# Altium footprint library FPGA.PcbLib: 5 footprints
Each footprint in its own frame and in the unit in brackets; x right, y up, seen from the top. Pads: shape width x height; smd on the part's side, far side on the other; paste and mask are expansions set on the pad; w line width, h text height; cw(c..) or ccw(c..) is an arc to the next point about the centre after c.
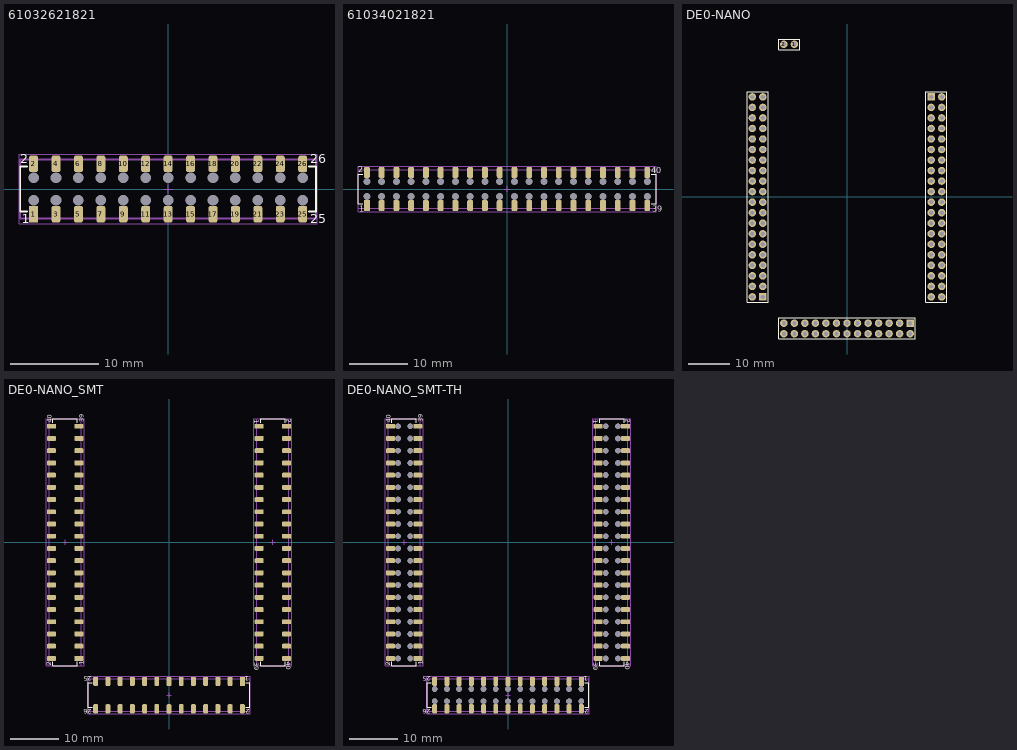
[diagram p0: the footprints below, top view; thin cyan lines are the x and y axes]

## 61032621821 [mm] "Dual SMT Socket Header, pitch 2.54mm, 26p"
height 7.45
pads (52):
  rect 1.02x1.9 smd: 1(-15.24,-2.85)
  rrect50% 1.02x1.9 smd: 2(-15.24,2.85) 3(-12.7,-2.85) 4(-12.7,2.85) 5(-10.16,-2.85) 6(-10.16,2.85) 7(-7.62,-2.85) 8(-7.62,2.85) 9(-5.08,-2.85) 10(-5.08,2.85) 11(-2.54,-2.85) 12(-2.54,2.85) 13(0,-2.85) 14(0,2.85) 15(2.54,-2.85) 16(2.54,2.85) 17(5.08,-2.85) 18(5.08,2.85) 19(7.62,-2.85) 20(7.62,2.85) 21(10.16,-2.85) 22(10.16,2.85) 23(12.7,-2.85) 24(12.7,2.85) 25(15.24,-2.85) 26(15.24,2.85)
  round 1.1 hole 1.2 unplated: ""(-15.24,-1.27) ""(-15.24,1.27) ""(-12.7,-1.27) ""(-12.7,1.27) ""(-10.16,-1.27) ""(-10.16,1.27) ""(-7.62,-1.27) ""(-7.62,1.27) ""(-5.08,-1.27) ""(-5.08,1.27) ""(-2.54,-1.27) ""(-2.54,1.27) ""(0,-1.27) ""(0,1.27) ""(2.54,-1.27) ""(2.54,1.27) ""(5.08,-1.27) ""(5.08,1.27) ""(7.62,-1.27) ""(7.62,1.27) ""(10.16,-1.27) ""(10.16,1.27) ""(12.7,-1.27) ""(12.7,1.27) ""(15.24,-1.27) ""(15.24,1.27)
Top Overlay:
  lines w0.2: -15.95,-2.54 -16.76,-2.54 -16.76,2.54 -15.95,2.54 ; 15.95,-2.54 16.76,-2.54 16.76,2.54 15.95,2.54
  text "26" at 16.07,2.9 h1.02
  text "25" at 16.07,-3.9 h1.02
  text "2" at -16.77,2.9 h1.02
  text "1" at -16.57,-3.9 h1.02
Mechanical 13:
  lines w0.2: -16.76,-3.35 -16.76,3.35 16.76,3.35 16.76,-3.35 -16.76,-3.35
Mechanical 15:
  lines w0.05: -16.891,-3.937 -16.891,3.937 16.891,3.937 16.891,-3.937 -16.891,-3.937
  lines w0.1: -0.5,0 0.5,0 ; 0,-0.5 0,0.5
3D body "61002621821 (rev1).stp": height 7.43, standoff -0.02, extent -16.76,-3.35 16.76,3.35

## 61034021821 [mm] "Dual SMT Socket Header, pitch 2.54mm, 40p"
height 7.45
pads (80):
  rect 1.02x1.9 smd: 1(-24.13,-2.85)
  rrect50% 1.02x1.9 smd: 2(-24.13,2.85) 3(-21.59,-2.85) 4(-21.59,2.85) 5(-19.05,-2.85) 6(-19.05,2.85) 7(-16.51,-2.85) 8(-16.51,2.85) 9(-13.97,-2.85) 10(-13.97,2.85) 11(-11.43,-2.85) 12(-11.43,2.85) 13(-8.89,-2.85) 14(-8.89,2.85) 15(-6.35,-2.85) 16(-6.35,2.85) 17(-3.81,-2.85) 18(-3.81,2.85) 19(-1.27,-2.85) 20(-1.27,2.85) 21(1.27,-2.85) 22(1.27,2.85) 23(3.81,-2.85) 24(3.81,2.85) 25(6.35,-2.85) 26(6.35,2.85) 27(8.89,-2.85) 28(8.89,2.85) 29(11.43,-2.85) 30(11.43,2.85) 31(13.97,-2.85) 32(13.97,2.85) 33(16.51,-2.85) 34(16.51,2.85) 35(19.05,-2.85) 36(19.05,2.85) 37(21.59,-2.85) 38(21.59,2.85) 39(24.13,-2.85) 40(24.13,2.85)
  round 1.1 hole 1.2 unplated: ""(-24.13,-1.27) ""(-24.13,1.27) ""(-21.59,-1.27) ""(-21.59,1.27) ""(-19.05,-1.27) ""(-19.05,1.27) ""(-16.51,-1.27) ""(-16.51,1.27) ""(-13.97,-1.27) ""(-13.97,1.27) ""(-11.43,-1.27) ""(-11.43,1.27) ""(-8.89,-1.27) ""(-8.89,1.27) ""(-6.35,-1.27) ""(-6.35,1.27) ""(-3.81,-1.27) ""(-3.81,1.27) ""(-1.27,-1.27) ""(-1.27,1.27) ""(1.27,-1.27) ""(1.27,1.27) ""(3.81,-1.27) ""(3.81,1.27) ""(6.35,-1.27) ""(6.35,1.27) ""(8.89,-1.27) ""(8.89,1.27) ""(11.43,-1.27) ""(11.43,1.27) ""(13.97,-1.27) ""(13.97,1.27) ""(16.51,-1.27) ""(16.51,1.27) ""(19.05,-1.27) ""(19.05,1.27) ""(21.59,-1.27) ""(21.59,1.27) ""(24.13,-1.27) ""(24.13,1.27)
Top Overlay:
  lines w0.2: -24.84,-2.54 -25.65,-2.54 -25.65,2.54 -24.84,2.54 ; 24.84,-2.54 25.65,-2.54 25.65,2.54 24.84,2.54
  text "39" at 24.96,-3.9 h1.02
  text "40" at 24.808,2.748 h1.02
  text "1" at -25.46,-3.9 h1.02
  text "2" at -25.66,2.9 h1.02
Mechanical 13:
  lines w0.2: -25.65,-3.35 -25.65,3.35 25.65,3.35 25.65,-3.35 -25.65,-3.35
Mechanical 15:
  lines w0.05: -25.654,-3.937 -25.654,3.937 25.654,3.937 25.654,-3.937 -25.654,-3.937
  lines w0.1: -0.5,0 0.5,0 ; 0,-0.5 0,0.5
3D body "61004021821 (rev1).stp": height 7.43, standoff -0.02, extent -25.65,-3.35 25.65,3.35

## DE0-NANO [mm]
pads (108):
  round 1.8 hole 1: 1(-12.7,36.83) 2(-15.24,36.83) 102(22.86,24.13) 103(20.32,21.59) 104(22.86,21.59) 105(20.32,19.05) 106(22.86,19.05) 107(20.32,16.51) 108(22.86,16.51) 109(20.32,13.97) 110(22.86,13.97) 111(20.32,11.43) 112(22.86,11.43) 113(20.32,8.89) 114(22.86,8.89) 115(20.32,6.35) 116(22.86,6.35) 117(20.32,3.81) 118(22.86,3.81) 119(20.32,1.27) 120(22.86,1.27) 121(20.32,-1.27) 122(22.86,-1.27) 123(20.32,-3.81) 124(22.86,-3.81) 125(20.32,-6.35) 126(22.86,-6.35) 127(20.32,-8.89) 128(22.86,-8.89) 129(20.32,-11.43) 130(22.86,-11.43) 131(20.32,-13.97) 132(22.86,-13.97) 133(20.32,-16.51) 134(22.86,-16.51) 135(20.32,-19.05) 136(22.86,-19.05) 137(20.32,-21.59) 138(22.86,-21.59) 139(20.32,-24.13) 140(22.86,-24.13) 202(-22.86,-24.13) 203(-20.32,-21.59) 204(-22.86,-21.59) 205(-20.32,-19.05) 206(-22.86,-19.05) 207(-20.32,-16.51) 208(-22.86,-16.51) 209(-20.32,-13.97) 210(-22.86,-13.97) 211(-20.32,-11.43) 212(-22.86,-11.43) 213(-20.32,-8.89) 214(-22.86,-8.89) 215(-20.32,-6.35) 216(-22.86,-6.35) 217(-20.32,-3.81) 218(-22.86,-3.81) 219(-20.32,-1.27) 220(-22.86,-1.27) 221(-20.32,1.27) 222(-22.86,1.27) 223(-20.32,3.81) 224(-22.86,3.81) 225(-20.32,6.35) 226(-22.86,6.35) 227(-20.32,8.89) 228(-22.86,8.89) 229(-20.32,11.43) 230(-22.86,11.43) 231(-20.32,13.97) 232(-22.86,13.97) 233(-20.32,16.51) 234(-22.86,16.51) 235(-20.32,19.05) 236(-22.86,19.05) 237(-20.32,21.59) 238(-22.86,21.59) 239(-20.32,24.13) 240(-22.86,24.13) 302(15.24,-33.02) 303(12.7,-30.48) 304(12.7,-33.02) 305(10.16,-30.48) 306(10.16,-33.02) 307(7.62,-30.48) 308(7.62,-33.02) 309(5.08,-30.48) 310(5.08,-33.02) 311(2.54,-30.48) 312(2.54,-33.02) 313(0,-30.48) 314(0,-33.02) 315(-2.54,-30.48) 316(-2.54,-33.02) 317(-5.08,-30.48) 318(-5.08,-33.02) 319(-7.62,-30.48) 320(-7.62,-33.02) 321(-10.16,-30.48) 322(-10.16,-33.02) 323(-12.7,-30.48) 324(-12.7,-33.02) 325(-15.24,-30.48) 326(-15.24,-33.02)
  rect 1.8x1.8 hole 1: 101(20.32,24.13) 201(-20.32,-24.13) 301(15.24,-30.48)
Top Overlay:
  lines w0.2: -24.13,-25.4 -24.13,25.4 -19.05,25.4 -19.05,-25.4 -24.13,-25.4 ; -16.51,-34.29 16.51,-34.29 16.51,-29.21 -16.51,-29.21 -16.51,-34.29 ; -16.51,35.56 -16.51,38.1 -11.43,38.1 -11.43,35.56 -16.51,35.56 ; 19.05,-25.4 19.05,25.4 24.13,25.4 24.13,-25.4 19.05,-25.4
3D body: height 0, standoff 0, extent -16.51,-34.289 16.51,-31.751
3D body: height 0, standoff 0, extent -16.51,-31.749 16.51,-29.211
3D body: height 0, standoff 0, extent -16.51,35.561 -11.43,38.1
3D body: height 0, standoff 0, extent -21.589,-25.4 -19.05,25.4
3D body: height 0, standoff 0, extent -24.129,-25.4 -21.591,25.4
3D body: height 0, standoff 0, extent 21.591,-25.4 24.13,25.4
3D body: height 0, standoff 0, extent 19.051,-25.4 21.59,25.4

## DE0-NANO_SMT [mm] "empreinte pour la DE0 nano CMS seulement (fait avec 1x61032621821 et 2x61034021821)"
height 15
pads (106):
  rect 1.9x1.02 smd: 101(18.74,24.13) 201(-18.74,-24.13)
  rrect50% 1.9x1.02 smd: 102(24.44,24.13) 103(18.74,21.59) 104(24.44,21.59) 105(18.74,19.05) 106(24.44,19.05) 107(18.74,16.51) 108(24.44,16.51) 109(18.74,13.97) 110(24.44,13.97) 111(18.74,11.43) 112(24.44,11.43) 113(18.74,8.89) 114(24.44,8.89) 115(18.74,6.35) 116(24.44,6.35) 117(18.74,3.81) 118(24.44,3.81) 119(18.74,1.27) 120(24.44,1.27) 121(18.74,-1.27) 122(24.44,-1.27) 123(18.74,-3.81) 124(24.44,-3.81) 125(18.74,-6.35) 126(24.44,-6.35) 127(18.74,-8.89) 128(24.44,-8.89) 129(18.74,-11.43) 130(24.44,-11.43) 131(18.74,-13.97) 132(24.44,-13.97) 133(18.74,-16.51) 134(24.44,-16.51) 135(18.74,-19.05) 136(24.44,-19.05) 137(18.74,-21.59) 138(24.44,-21.59) 139(18.74,-24.13) 140(24.44,-24.13) 202(-24.44,-24.13) 203(-18.74,-21.59) 204(-24.44,-21.59) 205(-18.74,-19.05) 206(-24.44,-19.05) 207(-18.74,-16.51) 208(-24.44,-16.51) 209(-18.74,-13.97) 210(-24.44,-13.97) 211(-18.74,-11.43) 212(-24.44,-11.43) 213(-18.74,-8.89) 214(-24.44,-8.89) 215(-18.74,-6.35) 216(-24.44,-6.35) 217(-18.74,-3.81) 218(-24.44,-3.81) 219(-18.74,-1.27) 220(-24.44,-1.27) 221(-18.74,1.27) 222(-24.44,1.27) 223(-18.74,3.81) 224(-24.44,3.81) 225(-18.74,6.35) 226(-24.44,6.35) 227(-18.74,8.89) 228(-24.44,8.89) 229(-18.74,11.43) 230(-24.44,11.43) 231(-18.74,13.97) 232(-24.44,13.97) 233(-18.74,16.51) 234(-24.44,16.51) 235(-18.74,19.05) 236(-24.44,19.05) 237(-18.74,21.59) 238(-24.44,21.59) 239(-18.74,24.13) 240(-24.44,24.13)
  rect 1.02x1.9 smd: 301(15.24,-28.9)
  rrect50% 1.02x1.9 smd: 302(15.24,-34.6) 303(12.7,-28.9) 304(12.7,-34.6) 305(10.16,-28.9) 306(10.16,-34.6) 307(7.62,-28.9) 308(7.62,-34.6) 309(5.08,-28.9) 310(5.08,-34.6) 311(2.54,-28.9) 312(2.54,-34.6) 313(0,-28.9) 314(0,-34.6) 315(-2.54,-28.9) 316(-2.54,-34.6) 317(-5.08,-28.9) 318(-5.08,-34.6) 319(-7.62,-28.9) 320(-7.62,-34.6) 321(-10.16,-28.9) 322(-10.16,-34.6) 323(-12.7,-28.9) 324(-12.7,-34.6) 325(-15.24,-28.9) 326(-15.24,-34.6)
Top Overlay:
  lines w0.2: -24.13,-24.84 -24.13,-25.65 -19.05,-25.65 -19.05,-24.84 ; -24.13,24.84 -24.13,25.65 -19.05,25.65 -19.05,24.84 ; -15.95,-34.29 -16.76,-34.29 -16.76,-29.21 -15.95,-29.21 ; 15.95,-34.29 16.76,-34.29 16.76,-29.21 15.95,-29.21 ; 19.05,-24.84 19.05,-25.65 24.13,-25.65 24.13,-24.84 ; 19.05,24.84 19.05,25.65 24.13,25.65 24.13,24.84
  text "39" at -17.69,24.96 h1.02
  text "40" at -24.338,24.808 h1.02
  text "1" at -17.69,-25.46 h1.02
  text "2" at -24.49,-25.66 h1.02
  text "39" at 17.69,-24.96 h1.02
  text "40" at 24.338,-24.808 h1.02
  text "1" at 17.69,25.46 h1.02
  text "2" at 24.49,25.66 h1.02
  text "1" at 16.57,-27.85 h1.02
  text "2" at 16.77,-34.65 h1.02
  text "25" at -16.07,-27.85 h1.02
  text "26" at -16.07,-34.65 h1.02
Mechanical 13:
  lines w0.2: -24.94,-25.65 -18.24,-25.65 -18.24,25.65 -24.94,25.65 -24.94,-25.65 ; -16.76,-35.1 16.76,-35.1 16.76,-28.4 -16.76,-28.4 -16.76,-35.1 ; 18.24,-25.65 24.94,-25.65 24.94,25.65 18.24,25.65 18.24,-25.65
Mechanical 15:
  lines w0.05: -25.527,-25.654 -17.653,-25.654 -17.653,25.654 -25.527,25.654 -25.527,-25.654 ; -16.891,-35.687 16.891,-35.687 16.891,-27.813 -16.891,-27.813 -16.891,-35.687 ; 17.653,-25.654 25.527,-25.654 25.527,25.654 17.653,25.654 17.653,-25.654
  lines w0.1: -22.09,0 -21.09,0 ; -21.59,-0.5 -21.59,0.5 ; -0.5,-31.75 0.5,-31.75 ; 0,-32.25 0,-31.25 ; 21.09,0 22.09,0 ; 21.59,-0.5 21.59,0.5
3D body "61004021821 (rev1).stp": height 7.43, standoff -0.02, extent -24.94,-25.65 -18.24,25.65
3D body "61004021821 (rev1).stp": height 7.43, standoff -0.02, extent 18.24,-25.65 24.94,25.65
3D body "61002621821 (rev1).stp": height 7.43, standoff -0.02, extent -16.76,-35.1 16.76,-28.4

## DE0-NANO_SMT-TH [mm] "empreinte pour la DE0 nano CMS via picot traversant (fait avec 1x61032621821 et 2x61034021821)"
height 15
pads (212):
  rect 1.9x1.02 smd: 101(18.74,24.13) 201(-18.74,-24.13)
  rrect50% 1.9x1.02 smd: 102(24.44,24.13) 103(18.74,21.59) 104(24.44,21.59) 105(18.74,19.05) 106(24.44,19.05) 107(18.74,16.51) 108(24.44,16.51) 109(18.74,13.97) 110(24.44,13.97) 111(18.74,11.43) 112(24.44,11.43) 113(18.74,8.89) 114(24.44,8.89) 115(18.74,6.35) 116(24.44,6.35) 117(18.74,3.81) 118(24.44,3.81) 119(18.74,1.27) 120(24.44,1.27) 121(18.74,-1.27) 122(24.44,-1.27) 123(18.74,-3.81) 124(24.44,-3.81) 125(18.74,-6.35) 126(24.44,-6.35) 127(18.74,-8.89) 128(24.44,-8.89) 129(18.74,-11.43) 130(24.44,-11.43) 131(18.74,-13.97) 132(24.44,-13.97) 133(18.74,-16.51) 134(24.44,-16.51) 135(18.74,-19.05) 136(24.44,-19.05) 137(18.74,-21.59) 138(24.44,-21.59) 139(18.74,-24.13) 140(24.44,-24.13) 202(-24.44,-24.13) 203(-18.74,-21.59) 204(-24.44,-21.59) 205(-18.74,-19.05) 206(-24.44,-19.05) 207(-18.74,-16.51) 208(-24.44,-16.51) 209(-18.74,-13.97) 210(-24.44,-13.97) 211(-18.74,-11.43) 212(-24.44,-11.43) 213(-18.74,-8.89) 214(-24.44,-8.89) 215(-18.74,-6.35) 216(-24.44,-6.35) 217(-18.74,-3.81) 218(-24.44,-3.81) 219(-18.74,-1.27) 220(-24.44,-1.27) 221(-18.74,1.27) 222(-24.44,1.27) 223(-18.74,3.81) 224(-24.44,3.81) 225(-18.74,6.35) 226(-24.44,6.35) 227(-18.74,8.89) 228(-24.44,8.89) 229(-18.74,11.43) 230(-24.44,11.43) 231(-18.74,13.97) 232(-24.44,13.97) 233(-18.74,16.51) 234(-24.44,16.51) 235(-18.74,19.05) 236(-24.44,19.05) 237(-18.74,21.59) 238(-24.44,21.59) 239(-18.74,24.13) 240(-24.44,24.13)
  rect 1.02x1.9 smd: 301(15.24,-28.9)
  rrect50% 1.02x1.9 smd: 302(15.24,-34.6) 303(12.7,-28.9) 304(12.7,-34.6) 305(10.16,-28.9) 306(10.16,-34.6) 307(7.62,-28.9) 308(7.62,-34.6) 309(5.08,-28.9) 310(5.08,-34.6) 311(2.54,-28.9) 312(2.54,-34.6) 313(0,-28.9) 314(0,-34.6) 315(-2.54,-28.9) 316(-2.54,-34.6) 317(-5.08,-28.9) 318(-5.08,-34.6) 319(-7.62,-28.9) 320(-7.62,-34.6) 321(-10.16,-28.9) 322(-10.16,-34.6) 323(-12.7,-28.9) 324(-12.7,-34.6) 325(-15.24,-28.9) 326(-15.24,-34.6)
  round 1.1 hole 1.2 unplated: ""(-22.86,-24.13) ""(-22.86,-21.59) ""(-22.86,-19.05) ""(-22.86,-16.51) ""(-22.86,-13.97) ""(-22.86,-11.43) ""(-22.86,-8.89) ""(-22.86,-6.35) ""(-22.86,-3.81) ""(-22.86,-1.27) ""(-22.86,1.27) ""(-22.86,3.81) ""(-22.86,6.35) ""(-22.86,8.89) ""(-22.86,11.43) ""(-22.86,13.97) ""(-22.86,16.51) ""(-22.86,19.05) ""(-22.86,21.59) ""(-22.86,24.13) ""(-20.32,-24.13) ""(-20.32,-21.59) ""(-20.32,-19.05) ""(-20.32,-16.51) ""(-20.32,-13.97) ""(-20.32,-11.43) ""(-20.32,-8.89) ""(-20.32,-6.35) ""(-20.32,-3.81) ""(-20.32,-1.27) ""(-20.32,1.27) ""(-20.32,3.81) ""(-20.32,6.35) ""(-20.32,8.89) ""(-20.32,11.43) ""(-20.32,13.97) ""(-20.32,16.51) ""(-20.32,19.05) ""(-20.32,21.59) ""(-20.32,24.13) ""(-15.24,-33.02) ""(-15.24,-30.48) ""(-12.7,-33.02) ""(-12.7,-30.48) ""(-10.16,-33.02) ""(-10.16,-30.48) ""(-7.62,-33.02) ""(-7.62,-30.48) ""(-5.08,-33.02) ""(-5.08,-30.48) ""(-2.54,-33.02) ""(-2.54,-30.48) ""(0,-33.02) ""(0,-30.48) ""(2.54,-33.02) ""(2.54,-30.48) ""(5.08,-33.02) ""(5.08,-30.48) ""(7.62,-33.02) ""(7.62,-30.48) ""(10.16,-33.02) ""(10.16,-30.48) ""(12.7,-33.02) ""(12.7,-30.48) ""(15.24,-33.02) ""(15.24,-30.48) ""(20.32,-24.13) ""(20.32,-21.59) ""(20.32,-19.05) ""(20.32,-16.51) ""(20.32,-13.97) ""(20.32,-11.43) ""(20.32,-8.89) ""(20.32,-6.35) ""(20.32,-3.81) ""(20.32,-1.27) ""(20.32,1.27) ""(20.32,3.81) ""(20.32,6.35) ""(20.32,8.89) ""(20.32,11.43) ""(20.32,13.97) ""(20.32,16.51) ""(20.32,19.05) ""(20.32,21.59) ""(20.32,24.13) ""(22.86,-24.13) ""(22.86,-21.59) ""(22.86,-19.05) ""(22.86,-16.51) ""(22.86,-13.97) ""(22.86,-11.43) ""(22.86,-8.89) ""(22.86,-6.35) ""(22.86,-3.81) ""(22.86,-1.27) ""(22.86,1.27) ""(22.86,3.81) ""(22.86,6.35) ""(22.86,8.89) ""(22.86,11.43) ""(22.86,13.97) ""(22.86,16.51) ""(22.86,19.05) ""(22.86,21.59) ""(22.86,24.13)
Top Overlay:
  lines w0.2: -24.13,-24.84 -24.13,-25.65 -19.05,-25.65 -19.05,-24.84 ; -24.13,24.84 -24.13,25.65 -19.05,25.65 -19.05,24.84 ; -15.95,-34.29 -16.76,-34.29 -16.76,-29.21 -15.95,-29.21 ; 15.95,-34.29 16.76,-34.29 16.76,-29.21 15.95,-29.21 ; 19.05,-24.84 19.05,-25.65 24.13,-25.65 24.13,-24.84 ; 19.05,24.84 19.05,25.65 24.13,25.65 24.13,24.84
  text "26" at -16.07,-34.65 h1.02
  text "25" at -16.07,-27.85 h1.02
  text "2" at 16.77,-34.65 h1.02
  text "1" at 16.57,-27.85 h1.02
  text "2" at 24.49,25.66 h1.02
  text "1" at 17.69,25.46 h1.02
  text "40" at 24.338,-24.808 h1.02
  text "39" at 17.69,-24.96 h1.02
  text "2" at -24.49,-25.66 h1.02
  text "1" at -17.69,-25.46 h1.02
  text "40" at -24.338,24.808 h1.02
  text "39" at -17.69,24.96 h1.02
Mechanical 13:
  lines w0.2: -24.94,-25.65 -24.94,25.65 -18.24,25.65 -18.24,-25.65 -24.94,-25.65 ; -16.76,-35.1 -16.76,-28.4 16.76,-28.4 16.76,-35.1 -16.76,-35.1 ; 18.24,-25.65 18.24,25.65 24.94,25.65 24.94,-25.65 18.24,-25.65
Mechanical 15:
  lines w0.05: -25.527,-25.654 -25.527,25.654 -17.653,25.654 -17.653,-25.654 -25.527,-25.654 ; -16.891,-35.687 -16.891,-27.813 16.891,-27.813 16.891,-35.687 -16.891,-35.687 ; 17.653,-25.654 17.653,25.654 25.527,25.654 25.527,-25.654 17.653,-25.654
  lines w0.1: -22.09,0 -21.09,0 ; -21.59,-0.5 -21.59,0.5 ; -0.5,-31.75 0.5,-31.75 ; 0,-32.25 0,-31.25 ; 21.09,0 22.09,0 ; 21.59,-0.5 21.59,0.5
3D body "61002621821 (rev1).stp": height 7.43, standoff -0.02, extent -16.76,-35.1 16.76,-28.4
3D body "61004021821 (rev1).stp": height 7.43, standoff -0.02, extent 18.24,-25.65 24.94,25.65
3D body "61004021821 (rev1).stp": height 7.43, standoff -0.02, extent -24.94,-25.65 -18.24,25.65